# Altium schematic symbol library LD1085D2T33R.SchLib: 1 symbol
Pins are listed as number, name and electrical type; pins without a type are passive.

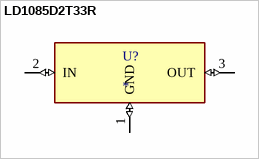
[diagram p0: symbol LD1085D2T33R]

## LD1085D2T33R
designator U?
Linear Voltage Regulator IC Positive Fixed 1 Output 3A D2PAK; MF: STMicroelectronics; MP: LD1085D2T33R; SnapEDA_Link: https://www.snapeda.com/parts/LD1085D2T33R/STMicroelectronics/view-part/?ref=snap; Package: TO-263-3 STMicroelectronics; Value: *; Check_prices: https://www.snapeda.com/parts/LD1085D2T33R/STMicroelectronics/view-part/?ref=eda
footprint LD1085D2T33R
pins: 1 GND (io), 2 IN (io), 3 OUT (io)